# EAGLE library part 7-SEGMENT-CLOCK-LR (library CEDTv78)
This is a part for the 4-Digit 7-segment LEDs from Lajpat Rai, New Delhi. The LONGPADS Variant is used for a test jig, but you may like it because there is more pad to solder to. If you are concerned about routing space, the standard works just fine though.
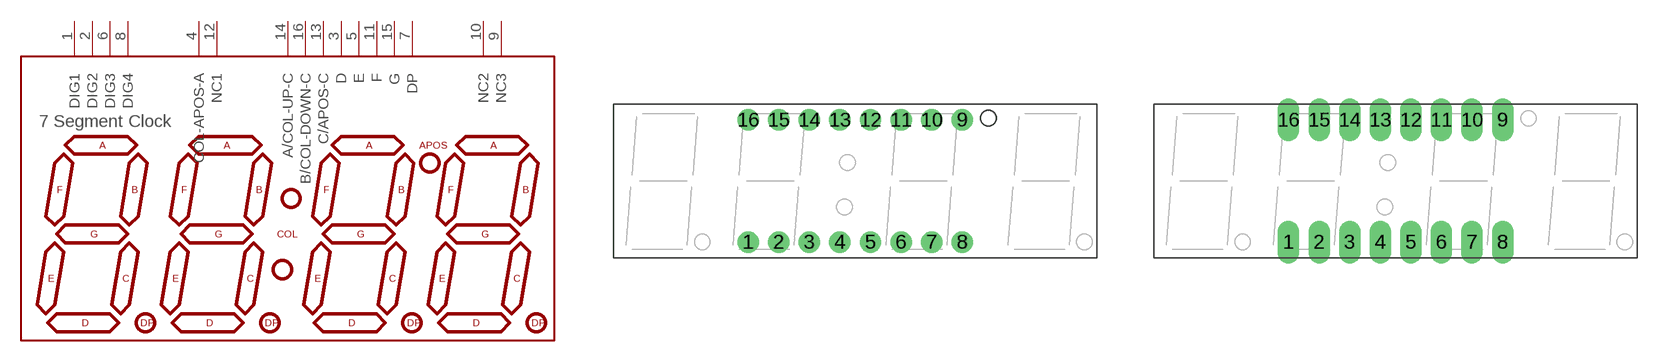
[diagram p61: symbol with the pads of 7-SEGMENT-CLOCK-ROUND-LR; footprints 7-SEGMENT-CLOCK-ROUND-LR, 7-SEGMENT-CLOCK-LONGPADS-LR]

Designator prefix LED

## 7-SEGMENT-CLOCK-LR  [7-SEGMENT-CLOCK-ROUND-LR]
1  DIG1  pas
2  DIG2  pas
3  D  pas
4  COL-APOS-A  pas
5  E  pas
6  DIG3  pas
7  DP  pas
8  DIG4  pas
9  NC3  pas
10  NC2  pas
11  F  pas
12  NC1  pas
13  C/APOS-C  pas
14  A/COL-UP-C  pas
15  G  pas
16  B/COL-DOWN-C  pas

## 7-SEGMENT-CLOCK-LRLONGPADS  [7-SEGMENT-CLOCK-LONGPADS-LR]
Pads as for 7-SEGMENT-CLOCK-ROUND-LR

## Footprint 7-SEGMENT-CLOCK-ROUND-LR (pad centres in mm)
This is a package for the 4-digit 7-segment RED LED from Young Sun.
drill 0.8 pad 1.778: 1 -8.89,-5.08; 2 -6.35,-5.08; 3 -3.81,-5.08; 4 -1.27,-5.08; 5 1.27,-5.08; 6 3.81,-5.08; 7 6.35,-5.08; 8 8.89,-5.08; 9 8.89,5.08; 10 6.35,5.08; 11 3.81,5.08; 12 1.27,5.08; 13 -1.27,5.08; 14 -3.81,5.08; 15 -6.35,5.08; 16 -8.89,5.08

## Footprint 7-SEGMENT-CLOCK-LONGPADS-LR (pad centres in mm)
drill 1.016 pad 1.778 long: 1 -8.89,-5.08; 2 -6.35,-5.08; 3 -3.81,-5.08; 4 -1.27,-5.08; 5 1.27,-5.08; 6 3.81,-5.08; 7 6.35,-5.08; 8 8.89,-5.08; 9 8.89,5.08; 10 6.35,5.08; 11 3.81,5.08; 12 1.27,5.08; 13 -1.27,5.08; 14 -3.81,5.08; 15 -6.35,5.08; 16 -8.89,5.08